# Altium schematic symbol library EE13_1100mA_HF_Transformer.SchLib: 1 symbol
Pins are listed as number, name and electrical type; pins without a type are passive.

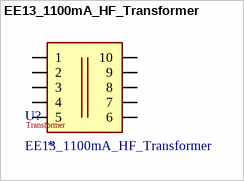
[diagram p0: symbol EE13_1100mA_HF_Transformer]

## EE13_1100mA_HF_Transformer
designator U?
LCSC: *
footprint EE13_1100mA_HF_Transformer
pins: 1, 2, 3, 4, 5, 6, 7, 8, 9, 10
text: Transformer